# Altium footprint library D6R60F1LFS.PcbLib: 1 footprints
Each footprint in its own frame and in the unit in brackets; x right, y up, seen from the top. Pads: shape width x height; smd on the part's side, far side on the other; paste and mask are expansions set on the pad; w line width, h text height; cw(c..) or ccw(c..) is an arc to the next point about the centre after c.
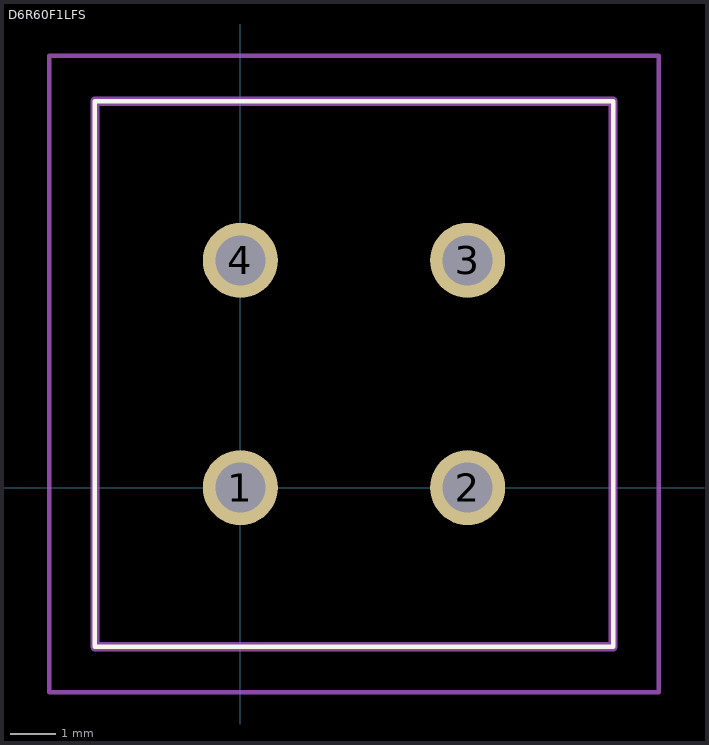
[diagram p0: the footprint, top view; thin cyan lines are the x and y axes]

## D6R60F1LFS [mm]
pads (4):
  round 1.65 hole 1.1: 1(0,0) 2(5,0) 3(5,5) 4(0,5)
Top Overlay:
  lines w0.1: -3.2,-3.5 8.2,-3.5 8.2,8.5 -3.2,8.5 -3.2,-3.5
Mechanical 15:
  lines w0.2: -3.2,-3.5 8.2,-3.5 8.2,8.5 -3.2,8.5 -3.2,-3.5
Mechanical 20:
  lines w0.1: -4.2,-4.5 9.2,-4.5 9.2,9.5 -4.2,9.5 -4.2,-4.5